# Altium schematic symbol library I6A4W020A033V-001-R.SCHLIB: 1 symbol
Pins are listed as number, name and electrical type; pins without a type are passive.

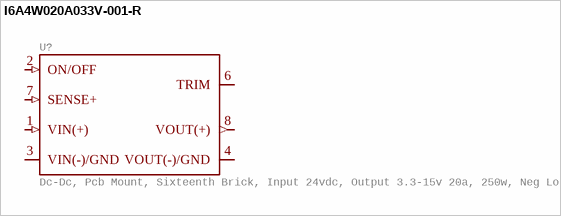
[diagram p0: symbol I6A4W020A033V-001-R]

## I6A4W020A033V-001-R
designator U?, comment Dc-Dc, Pcb Mount, Sixteenth Brick, Input 24vdc, Output 3.3-15v 20a, 250w, Neg Logic
GateName_1: G$1; SymbolName_1: I6A4W020A033V-001-R; MF: TDK-Lambda Americas; Description: Non-Isolated PoL Module DC DC Converter 1 Output 3.3 ~ 15V 20A 9V - 53V Input; LibraryName: I6A4W020A033V-001-R; DeviceSetName: I6A4W020A033V-001-R; Package: TDK-LAMBDA_I6A4W020A033V-001-R; MP: I6A4W020A033V-001-R; Package: DIP-7 TDK-Lambda; Mouser-Purchase-URL: https://snapeda.com/shop?store=Mouser&id=1737324; Digi-Key_Part_Number: 285-2503-ND
footprint TDK-LAMBDA_I6A4W020A033V-001-R
pins: 1 VIN(+) (in), 2 ON/OFF (in), 3 VIN(-)/GND (power), 4 VOUT(-)/GND (power), 6 TRIM, 7 SENSE+ (in), 8 VOUT(+) (out)